# Altium footprint library VMN2.PcbLib: 1 footprints
Each footprint in its own frame and in the unit in brackets; x right, y up, seen from the top. Pads: shape width x height; smd on the part's side, far side on the other; paste and mask are expansions set on the pad; w line width, h text height; cw(c..) or ccw(c..) is an arc to the next point about the centre after c.
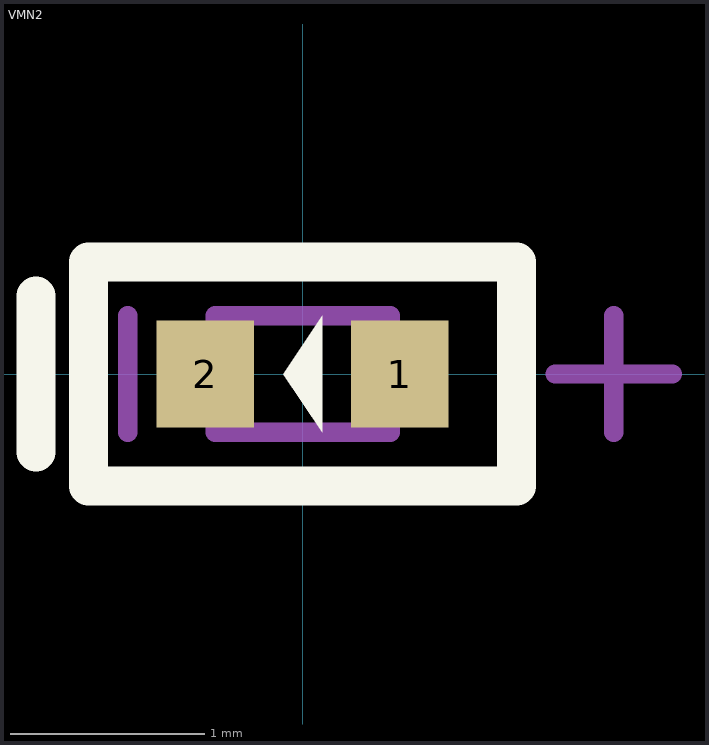
[diagram p0: the footprint, top view; thin cyan lines are the x and y axes]

## VMN2 [mm] "ROHM Semic, Ultra small mold type. (VMN2)"
pads (2):
  rect 0.5x0.55 smd: 1(0.5,0) 2(-0.5,0)
Top Overlay:
  region: 0.1,-0.3 0.1,0.3 -0.1,0
  lines w0.2: -1.372,-0.4 -1.372,0.4 ; -1.1,-0.575 1.1,-0.575 1.1,0.575 -1.1,0.575 -1.1,-0.575
Mechanical 13:
  lines w0.1: -0.45,-0.3 -0.45,0.3 0.45,0.3 0.45,-0.3 -0.45,-0.3
Mechanical 15:
  lines w0.1: -0.9,-0.3 -0.9,0.3 ; 1.3,0 1.9,0 ; 1.6,-0.3 1.6,0.3